# Altium schematic symbol library IC.USSA.SchLib: 1 symbol
Pins are listed as number, name and electrical type; pins without a type are passive.

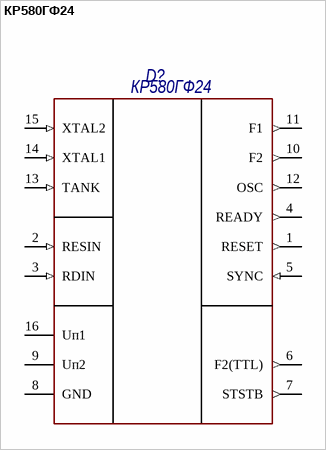
[diagram p0: symbol КР580ГФ24]

## КР580ГФ24
designator D?
Генератор тактовых сигналов; Manufacture: Гамма; Case: DIP16; HelpURL: https://www.chipdip.ru/product0/27661; Model: КР580ГФ24
footprint DIP16
pins: 1 RESET (out), 2 RESIN (in), 3 RDIN (in), 4 READY (out), 5 SYNC (in), 6 F2(TTL) (out), 7 STSTB (out), 8 GND, 9 Uп2 (power), 10 F2 (out), 11 F1 (out), 12 OSC (out), 13 TANK (in), 14 XTAL1 (in), 15 XTAL2 (in), 16 Uп1 (power)